# Altium footprint library AltiumLibraryElements.PcbLib: 6 footprints
Each footprint in its own frame and in the unit in brackets; x right, y up, seen from the top. Pads: shape width x height; smd on the part's side, far side on the other; paste and mask are expansions set on the pad; w line width, h text height; cw(c..) or ccw(c..) is an arc to the next point about the centre after c.
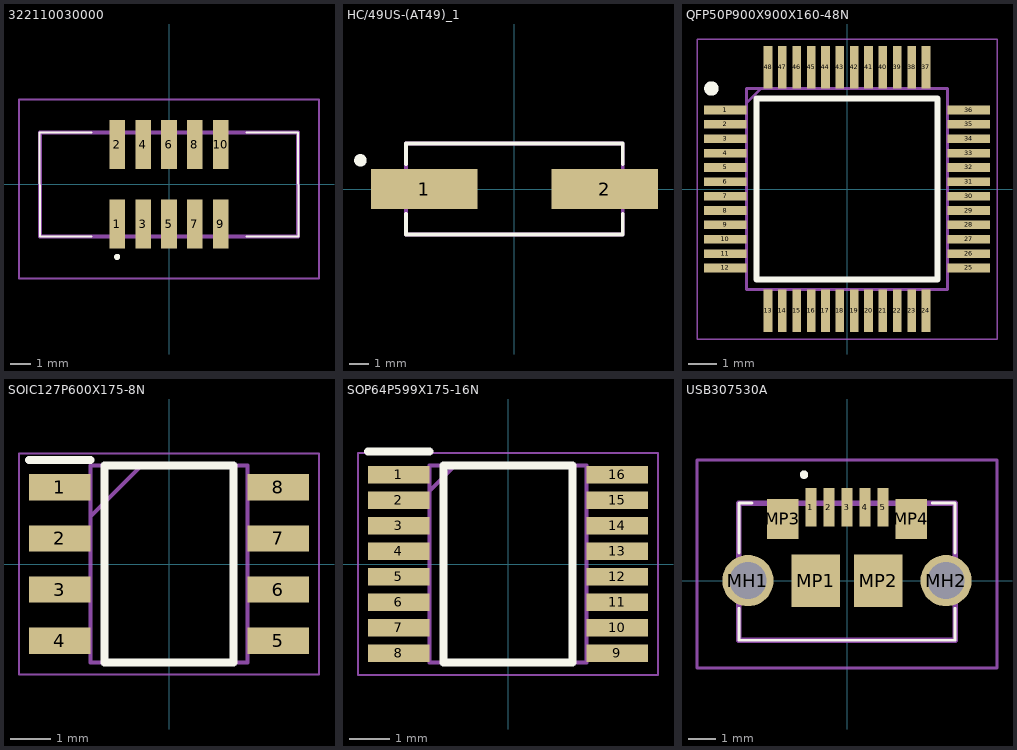
[diagram p0: the footprints below, top view; thin cyan lines are the x and y axes]

## 322110030000 [mm]
pads (10):
  rect 0.76x2.4 smd: 1(-2.54,-1.95) 2(-2.54,1.95) 3(-1.27,-1.95) 4(-1.27,1.95) 5(0,-1.95) 6(0,1.95) 7(1.27,-1.95) 8(1.27,1.95) 9(2.54,-1.95) 10(2.54,1.95)
Top Overlay:
  lines w0.1: -3.81,-2.55 -6.325,-2.55 -6.35,2.55 -3.81,2.55 ; 3.81,-2.55 6.35,-2.55 6.325,2.55 3.81,2.55
  lines w0.2: -2.54,-3.6 ccw(c-2.54,-3.55) -2.54,-3.5 ccw(c-2.54,-3.55) -2.54,-3.6
Mechanical 13:
  lines w0.2: -6.325,-2.55 -6.325,2.55 6.325,2.55 6.325,-2.55 -6.325,-2.55
Mechanical 15:
  lines w0.1: -7.35,-4.6 -7.35,4.15 ; -7.35,-4.6 7.35,-4.6 ; -7.35,-4.6 -7.35,4.15 ; -7.35,-4.6 7.35,-4.6 ; -7.35,4.15 7.35,4.15 ; -7.35,4.15 7.35,4.15 ; 7.35,-4.6 7.35,4.15 ; 7.35,-4.6 7.35,4.15
3D body "3221-10-0300-00.stp": height 5.9, standoff 0, extent -6.325,-3.074 6.325,3.074

## HC/49US-(AT49)_1 [mm]
pads (2):
  rect 5.6x2.1 smd: 1(-4.75,0) 2(4.75,0)
Top Overlay:
  circle w0.4: c-8.105,1.51 r0.126
  lines w0.2: -5.7,-1.3 -5.7,-2.4 5.7,-2.4 5.7,-1.3 ; -5.7,1.3 -5.7,2.4 5.7,2.4 5.7,1.3
Mechanical 13:
  lines w0.2: -5.7,-2.4 5.7,-2.4 5.7,2.4 -5.7,2.4 -5.7,-2.4
3D body "ABLS-12.000MHZ-B4-T.stp": height 1.5, standoff -2.7, extent -6.35,-2.35 6.35,2.35

## QFP50P900X900X160-48N [mm]
pads (48):
  rect 1.475x0.3 smd: 1(-4.238,2.75) 2(-4.238,2.25) 3(-4.238,1.75) 4(-4.238,1.25) 5(-4.238,0.75) 6(-4.238,0.25) 7(-4.238,-0.25) 8(-4.238,-0.75) 9(-4.238,-1.25) 10(-4.238,-1.75) 11(-4.238,-2.25) 12(-4.238,-2.75) 25(4.238,-2.75) 26(4.238,-2.25) 27(4.238,-1.75) 28(4.238,-1.25) 29(4.238,-0.75) 30(4.238,-0.25) 31(4.238,0.25) 32(4.238,0.75) 33(4.238,1.25) 34(4.238,1.75) 35(4.238,2.25) 36(4.238,2.75)
  rect 0.3x1.475 smd: 13(-2.75,-4.238) 14(-2.25,-4.238) 15(-1.75,-4.238) 16(-1.25,-4.238) 17(-0.75,-4.238) 18(-0.25,-4.238) 19(0.25,-4.238) 20(0.75,-4.238) 21(1.25,-4.238) 22(1.75,-4.238) 23(2.25,-4.238) 24(2.75,-4.238) 37(2.75,4.238) 38(2.25,4.238) 39(1.75,4.238) 40(1.25,4.238) 41(0.75,4.238) 42(0.25,4.238) 43(-0.25,4.238) 44(-0.75,4.238) 45(-1.25,4.238) 46(-1.75,4.238) 47(-2.25,4.238) 48(-2.75,4.238)
Top Overlay:
  circle w0.25: c-4.725,3.5 r0.125
  lines w0.2: -3.15,-3.15 -3.15,3.15 3.15,3.15 3.15,-3.15 -3.15,-3.15
Mechanical 13:
  lines w0.1: -3.5,3 -3,3.5 ; -3.5,-3.5 -3.5,3.5 3.5,3.5 3.5,-3.5 -3.5,-3.5
Mechanical 15:
  lines w0.05: -5.225,-5.225 -5.225,5.225 5.225,5.225 5.225,-5.225 -5.225,-5.225
3D body "STM32F103CBT6.stp": height 1.6, standoff 0, extent -4.5,-4.5 4.5,4.5

## SOIC127P600X175-8N [mm]
pads (8):
  rect 1.525x0.65 smd: 1(-2.712,1.905) 2(-2.712,0.635) 3(-2.712,-0.635) 4(-2.712,-1.905) 5(2.712,-1.905) 6(2.712,-0.635) 7(2.712,0.635) 8(2.712,1.905)
Top Overlay:
  lines w0.2: -3.475,2.58 -1.95,2.58 ; -1.6,-2.45 1.6,-2.45 1.6,2.45 -1.6,2.45 -1.6,-2.45
Mechanical 13:
  lines w0.1: -1.95,1.18 -0.68,2.45 ; -1.95,-2.45 1.95,-2.45 1.95,2.45 -1.95,2.45 -1.95,-2.45
Mechanical 15:
  lines w0.05: -3.725,-2.75 3.725,-2.75 3.725,2.75 -3.725,2.75 -3.725,-2.75
3D body "NE555DR.stp": height 1.75, standoff 0, extent -3,-2.45 3,2.45

## SOP64P599X175-16N [mm]
pads (16):
  rect 1.526x0.435 smd: 1(-2.712,2.222) 2(-2.712,1.588) 3(-2.712,0.952) 4(-2.712,0.318) 5(-2.712,-0.318) 6(-2.712,-0.952) 7(-2.712,-1.588) 8(-2.712,-2.222) 9(2.712,-2.222) 10(2.712,-1.588) 11(2.712,-0.952) 12(2.712,-0.318) 13(2.712,0.318) 14(2.712,0.952) 15(2.712,1.588) 16(2.712,2.222)
Top Overlay:
  lines w0.2: -3.475,2.79 -1.95,2.79 ; -1.6,-2.451 1.6,-2.451 1.6,2.451 -1.6,2.451 -1.6,-2.451
Mechanical 13:
  lines w0.1: -1.95,1.816 -1.314,2.451 ; -1.95,-2.451 1.95,-2.451 1.95,2.451 -1.95,2.451 -1.95,-2.451
Mechanical 15:
  lines w0.05: -3.725,-2.752 3.725,-2.752 3.725,2.752 -3.725,2.752 -3.725,-2.752
3D body "FT230XS-R.stp": height 1.75, standoff 0, extent -2.997,-2.451 2.997,2.451

## USB307530A [mm]
pads (11):
  rect 0.4x1.4 smd: 1(-1.3,2.65) 2(-0.65,2.65) 3(0,2.65) 4(0.65,2.65) 5(1.3,2.65)
  round 1.85 hole 1.328: MH1(-3.575,0) MH2(3.575,0)
  rect 1.75x1.9 smd: MP1(-1.125,0) MP2(1.125,0)
  rect 1.15x1.45 smd: MP3(-2.32,2.23) MP4(2.32,2.23)
Top Overlay:
  lines w0.1: -3.9,-1 -3.9,-2.15 3.9,-2.15 3.9,-1 ; -3.9,1 -3.9,2.8 -3.425,2.8 ; 3.075,2.8 3.9,2.8 3.9,1
  lines w0.2: -1.6,3.825 ccw(c-1.55,3.825) -1.5,3.825 ccw(c-1.55,3.825) -1.6,3.825
Mechanical 13:
  lines w0.2: -3.9,-2.15 -3.9,2.8 3.9,2.8 3.9,-2.15 -3.9,-2.15
Mechanical 15:
  lines w0.1: -5.415,-3.15 -5.415,4.35 5.415,4.35 5.415,-3.15 -5.415,-3.15
3D body "USB3075-30-A.stp": height 3.07, standoff -2.47, extent -3.9,-2.175 3.9,1.485